# Altium footprint library S7500_DRIVER.PcbLib: 20 footprints (part 2 of 2)
Each footprint in its own frame and in the unit in brackets; x right, y up, seen from the top. Pads: shape width x height; smd on the part's side, far side on the other; paste and mask are expansions set on the pad; w line width, h text height; cw(c..) or ccw(c..) is an arc to the next point about the centre after c.
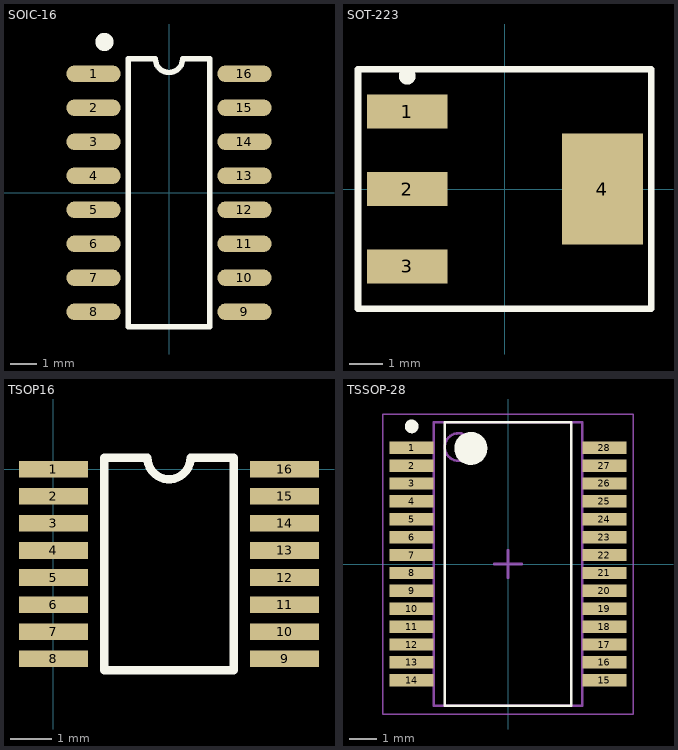
[diagram p1: the footprints below, top view; thin cyan lines are the x and y axes]

## SOIC-16 [mil]
pads (16):
  oval 80x24 smd: 1(-110.95,175) 2(-110.95,125) 3(-110.95,75) 4(-110.95,25) 5(-110.95,-25) 6(-110.95,-75) 7(-110.95,-125) 8(-110.95,-175) 9(110.95,-175) 10(110.95,-125) 11(110.95,-75) 12(110.95,-25) 13(110.95,25) 14(110.95,75) 15(110.95,125) 16(110.95,175)
Top Overlay:
  circle w18: c-95,221.81 r4.3
  lines w7.87: -60,196.85 -60,-196.85 60,-196.85 60,196.85
  lines w8: -60,196.85 -20,196.85 ccw(c0,196.85) 0,176.85 ccw(c0,196.85) 20,196.85 60,196.85
3D body "SOP16.STEP": height 74.8, standoff 0.03, extent -118.21,-196.85 118.23,196.86

## SOT-223 [mm] "SOT223, 4-Leads, Body 6.7x7.3mm (max), Pitch 2.30mm, IPC Medium Density"
height 1.8
pads (4):
  rect 2.4x1 smd: 1(-2.9,2.3) 2(-2.9,0) 3(-2.9,-2.3)
  rect 2.4x3.3 smd: 4(2.9,0)
Top Overlay:
  circle w0.25: c-2.9,3.35 r0.125
  lines w0.2: -4.36,-3.56 -4.36,3.56 4.35,3.56 4.35,-3.56 -4.36,-3.56

## TSOP16 [mm]
pads (16):
  rect 1.65x0.4 smd mask+0.05: 1(0,0) 2(0,-0.65) 3(0,-1.3) 4(0,-1.95) 5(0,-2.6) 6(0,-3.25) 7(0,-3.9) 8(0,-4.55) 9(5.55,-4.55) 10(5.55,-3.9) 11(5.55,-3.25) 12(5.55,-2.6) 13(5.55,-1.95) 14(5.55,-1.3) 15(5.55,-0.65) 16(5.55,0)
Top Overlay:
  lines w0.2: 1.225,-4.825 4.325,-4.825 4.325,0.275 3.292,0.275 cw(c2.775,0.275) 2.258,0.275 1.225,0.275 1.225,-4.825

## TSSOP-28 [mm] "SOP, 28-Leads, Body 10.20x5.30mm, Pitch 0.65mm, IPC Medium Density"
height 2
pads (28):
  rect 1.6x0.45 smd mask+0.05: 1(-3.5,4.225) 2(-3.5,3.575) 3(-3.5,2.925) 4(-3.5,2.275) 5(-3.5,1.625) 6(-3.5,0.975) 7(-3.5,0.325) 8(-3.5,-0.325) 9(-3.5,-0.975) 10(-3.5,-1.625) 11(-3.5,-2.275) 12(-3.5,-2.925) 13(-3.5,-3.575) 14(-3.5,-4.225) 15(3.5,-4.225) 16(3.5,-3.575) 17(3.5,-2.925) 18(3.5,-2.275) 19(3.5,-1.625) 20(3.5,-0.975) 21(3.5,-0.325) 22(3.5,0.325) 23(3.5,0.975) 24(3.5,1.625) 25(3.5,2.275) 26(3.5,2.925) 27(3.5,3.575) 28(3.5,4.225)
Top Overlay:
  circle w0.25: c-3.5,5 r0.125
  circle w0.6: c-1.35,4.2 r0.3
  lines w0.1: -2.3,-5.15 -2.3,5.15 2.3,5.15 2.3,-5.15 -2.3,-5.15
Mechanical 13:
  circle w0.1: c-1.8,4.25 r0.5
  lines w0.1: -2.7,-5.15 -2.7,5.15 2.7,5.15 2.7,-5.15 -2.7,-5.15
Mechanical 15:
  lines w0.05: -4.55,-5.45 -4.55,5.45 4.55,5.45 4.55,-5.45 -4.55,-5.45
  lines w0.1: -0.5,0 0.5,0 ; 0,-0.5 0,0.5
3D body: height 2, standoff 0.2, extent -2.7,-5.15 2.7,5.15